# EAGLE library part RM2?* (library relay)
4 GHz 2 FORM C MICROWAVE RELAY NAiS Source: http://www.mew-europe.com/.. en_ds_61305_0000.pdf
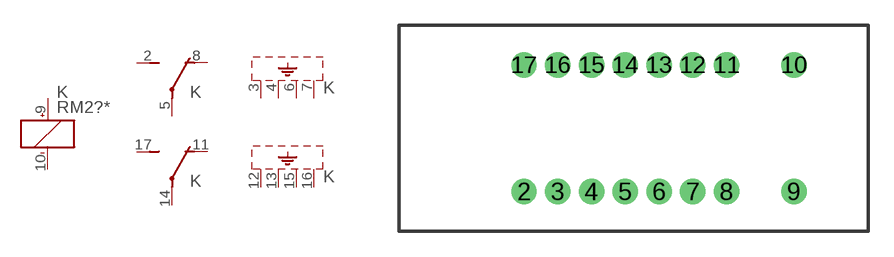
[diagram p97: symbol with the pads of RM; footprint RM]

Designator prefix K; gates A=K+- 1=U 2=U S1=SHIELD-4 S2=SHIELD-4

## RM2-12V (OC_FARNELL: unknown; OC_NEWARK: unknown), RM2-24V (OC_FARNELL: unknown; OC_NEWARK: unknown), RM2-3V (OC_FARNELL: unknown; OC_NEWARK: unknown), RM2-4.5V (OC_FARNELL: unknown; OC_NEWARK: unknown), RM2-5V (OC_FARNELL: unknown; OC_NEWARK: unknown), RM2-6V (OC_FARNELL: unknown; OC_NEWARK: unknown), RM2-9V (OC_FARNELL: unknown; OC_NEWARK: unknown)  [RM]
2  1:S  pas
3  S1:SH  pas
4  S1:SH  pas
5  1:P  pas
6  S1:SH  pas
7  S1:SH  pas
8  1:O  pas
9  A:+  pas
10  A:-  pas
11  2:O  pas
12  S2:SH  pas
13  S2:SH  pas
14  2:P  pas
15  S2:SH  pas
16  S2:SH  pas
17  2:S  pas

## RM2-L-12V (OC_FARNELL: unknown; OC_NEWARK: unknown), RM2-L-24V (OC_FARNELL: unknown; OC_NEWARK: unknown), RM2-L-3V (OC_FARNELL: unknown; OC_NEWARK: unknown), RM2-L-4.5V (OC_FARNELL: unknown; OC_NEWARK: unknown), RM2-L-5V (OC_FARNELL: unknown; OC_NEWARK: unknown), RM2-L-6V (OC_FARNELL: unknown; OC_NEWARK: unknown), RM2-L-9V (OC_FARNELL: unknown; OC_NEWARK: unknown)  [RM]
2  1:S  pas
3  S1:SH  pas
4  S1:SH  pas
5  1:P  pas
6  S1:SH  pas
7  S1:SH  pas
8  1:O  pas
9  A:-  pas
10  A:+  pas
11  2:O  pas
12  S2:SH  pas
13  S2:SH  pas
14  2:P  pas
15  S2:SH  pas
16  S2:SH  pas
17  2:S  pas

## Footprint RM (pad centres in mm)
4 GHz 2 FORM C MICROWAVE RELAY NAiS Source: http://www.mew-europe.com/.. en_ds_61305_0000.pdf
drill 1: 2 -6,-3.75; 3 -4,-3.75; 4 -2,-3.75; 5 0,-3.75; 6 2,-3.75; 7 4,-3.75; 8 6,-3.75; 9 10,-3.75; 10 10,3.75; 11 6,3.75; 12 4,3.75; 13 2,3.75; 14 0,3.75; 15 -2,3.75; 16 -4,3.75; 17 -6,3.75